# EAGLE library part LTC6242 (library LTC624x)
Low Input Bias RROut Op-amp LTC6242 - 4 gates Input Bias Current: 0.2pA @ 25°, 1pA Max Rail-to-rail output Input voltage range: 0 to Vdd-1.5v Supply range: 2.8v to 6v (11v for 'HV' variant)
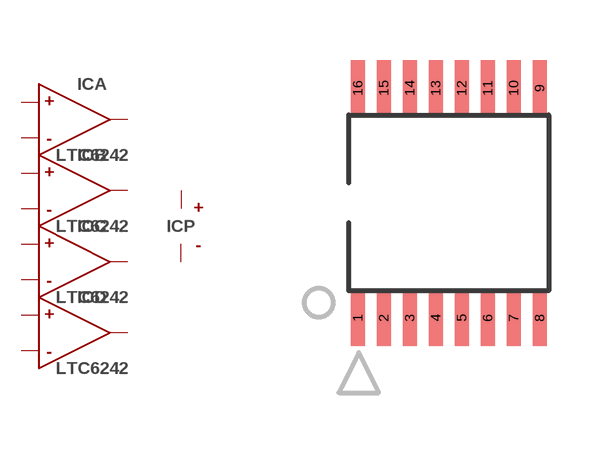
[diagram p1: symbol with the pads of TSSOP-16; footprint TSSOP-16]

Designator prefix IC; gates A=OP-AMP B=OP-AMP C=OP-AMP D=OP-AMP P=PWR

## LTC6242CGN  [TSSOP-16]
1  A:OUT  out
2  A:INN  in
3  A:INP  in
4  P:VDD  pwr
5  B:INP  in
6  B:INN  in
7  B:OUT  out
10  C:OUT  out
11  C:INN  in
12  C:INP  in
13  P:GND  pwr
14  D:INP  in
15  D:INN  in
16  D:OUT  out

## Footprint TSSOP-16 (pad centres in mm)
smd 0.35 x 1.4: 1 -2.275,-2.875; 2 -1.625,-2.875; 3 -0.975,-2.875; 4 -0.325,-2.875; 5 0.325,-2.875; 6 0.975,-2.875; 7 1.625,-2.875; 8 2.275,-2.875; 9 2.275,2.875; 10 1.625,2.875; 11 0.975,2.875; 12 0.325,2.875; 13 -0.325,2.875; 14 -0.975,2.875; 15 -1.625,2.875; 16 -2.275,2.875